# EAGLE library part SARA-R510M8S (library SparkFun-RF)
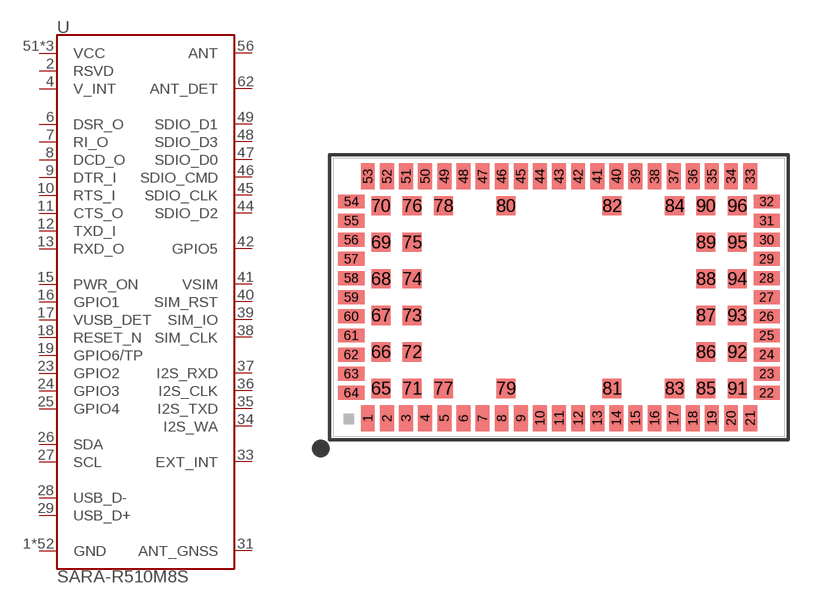
[diagram p41: symbol with the pads of SARA-LGA; footprint SARA-LGA]

Designator prefix U

## SARA-R510M8S (PROD_ID: IC-15573; VALUE: SARA-R510M8S)  [SARA-LGA]
1  GND  pwr
2  RSVD  nc
3  GND  pwr
4  V_INT  out
5  GND  pwr
6  DSR_O  out
7  RI_O  out
8  DCD_O  out
9  DTR_I  in
10  RTS_I  in
11  CTS_O  out
12  TXD_I  in
13  RXD_O  out
14  GND  pwr
15  PWR_ON  in
16  GPIO1
17  VUSB_DET  in
18  RESET_N  in
19  GPIO6/TP
20  GND  pwr
21  GND  pwr
22  GND  pwr
23  GPIO2
24  GPIO3
25  GPIO4
26  SDA
27  SCL
28  USB_D-
29  USB_D+
30  GND  pwr
31  ANT_GNSS  in
32  GND  pwr
33  EXT_INT  in
34  I2S_WA  out
35  I2S_TXD  out
36  I2S_CLK  out
37  I2S_RXD  in
38  SIM_CLK  out
39  SIM_IO
40  SIM_RST  out
41  VSIM  out
42  GPIO5
43  GND  pwr
44  SDIO_D2
45  SDIO_CLK  out
46  SDIO_CMD
47  SDIO_D0
48  SDIO_D3
49  SDIO_D1
50  GND  pwr
51  VCC  pwr
52  VCC  pwr
53  VCC  pwr
54  GND  pwr
55  GND  pwr
56  ANT
57  GND  pwr
58  GND  pwr
59  GND  pwr
60  GND  pwr
61  GND  pwr
62  ANT_DET  in
63  GND  pwr
64  GND  pwr
65  GND  pwr
66  GND  pwr
67  GND  pwr
68  GND  pwr
69  GND  pwr
70  GND  pwr
71  GND  pwr
72  GND  pwr
73  GND  pwr
74  GND  pwr
75  GND  pwr
76  GND  pwr
77  GND  pwr
78  GND  pwr
79  GND  pwr
80  GND  pwr
81  GND  pwr
82  GND  pwr
83  GND  pwr
84  GND  pwr
85  GND  pwr
86  GND  pwr
87  GND  pwr
88  GND  pwr
89  GND  pwr
90  GND  pwr
91  GND  pwr
92  GND  pwr
93  GND  pwr
94  GND  pwr
95  GND  pwr
96  GND  pwr

## Footprint SARA-LGA (pad centres in mm)
ublox SARA LGA form factor Miniature cellular modem package. Common form factor for many ublox cellular modules, including SARA-R4 and SARA-U2 series. Dimensions: 26.0 x 16.0 mm Pins: 96 Pitch: 1.1mm As per the SARA System Integration Manual: tRestrict has been added around the ANT and ANT_GNSS pads to reduce parasitic capacitance to ground; restrict has _not_ been added to layer 2 as the prepreg/dielectric thickness will be >= 200µm.
smd 0.8 x 1.5: 1 -11,-6.95; 2 -9.9,-6.95; 3 -8.8,-6.95; 4 -7.7,-6.95; 5 -6.6,-6.95; 6 -5.5,-6.95; 7 -4.4,-6.95; 8 -3.3,-6.95; 9 -2.2,-6.95; 10 -1.1,-6.95; 11 0,-6.95; 12 1.1,-6.95; 13 2.2,-6.95; 14 3.3,-6.95; 15 4.4,-6.95; 16 5.5,-6.95; 17 6.6,-6.95; 18 7.7,-6.95; 19 8.8,-6.95; 20 9.9,-6.95; 21 11,-6.95; 33 11,6.95; 34 9.9,6.95; 35 8.8,6.95; 36 7.7,6.95; 37 6.6,6.95; 38 5.5,6.95; 39 4.4,6.95; 40 3.3,6.95; 41 2.2,6.95; 42 1.1,6.95; 43 0,6.95; 44 -1.1,6.95; 45 -2.2,6.95; 46 -3.3,6.95; 47 -4.4,6.95; 48 -5.5,6.95; 49 -6.6,6.95; 50 -7.7,6.95; 51 -8.8,6.95; 52 -9.9,6.95; 53 -11,6.95
smd 1.5 x 0.8: 22 11.95,-5.5; 23 11.95,-4.4; 24 11.95,-3.3; 25 11.95,-2.2; 26 11.95,-1.1; 27 11.95,0; 28 11.95,1.1; 29 11.95,2.2; 30 11.95,3.3; 31 11.95,4.4; 32 11.95,5.5; 54 -11.95,5.5; 55 -11.95,4.4; 56 -11.95,3.3; 57 -11.95,2.2; 58 -11.95,1.1; 59 -11.95,0; 60 -11.95,-1.1; 61 -11.95,-2.2; 62 -11.95,-3.3; 63 -11.95,-4.4; 64 -11.95,-5.5
smd 1.1 x 1.1: 65 -10.25,-5.25; 66 -10.25,-3.15; 67 -10.25,-1.05; 68 -10.25,1.05; 69 -10.25,3.15; 70 -10.25,5.25; 71 -8.45,-5.25; 72 -8.45,-3.15; 73 -8.45,-1.05; 74 -8.45,1.05; 75 -8.45,3.15; 76 -8.45,5.25; 77 -6.65,-5.25; 78 -6.65,5.25; 79 -3.05,-5.25; 80 -3.05,5.25; 81 3.05,-5.25; 82 3.05,5.25; 83 6.65,-5.25; 84 6.65,5.25; 85 8.45,-5.25; 86 8.45,-3.15; 87 8.45,-1.05; 88 8.45,1.05; 89 8.45,3.15; 90 8.45,5.25; 91 10.25,-5.25; 92 10.25,-3.15; 93 10.25,-1.05; 94 10.25,1.05; 95 10.25,3.15; 96 10.25,5.25